# EAGLE library part SMS05 (library Semtech_By_element14_Batch_1)
TVS DIODE
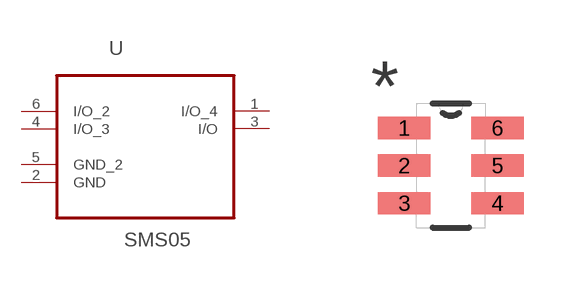
[diagram p0: symbol with the pads of SOT95P280X145-6N; footprint SOT95P280X145-6N]

Designator prefix U

## SMS05 (MPN: SMS05; OC_FARNELL: 2059036; OC_NEWARK: 64T4092; PACKAGE: SOT-23-6; SUPPLIER: SEMTECH)  [SOT95P280X145-6N]
1  I/O_4
2  GND  pas
3  I/O
4  I/O_3
5  GND_2  pas
6  I/O_2

## Footprint SOT95P280X145-6N (pad centres in mm)
smd 1.321 x 0.559: 1 -1.168,0.94; 2 -1.168,0; 3 -1.168,-0.94; 4 1.168,-0.94; 5 1.168,0; 6 1.168,0.94